# Altium schematic symbol library ST Mosfet.SchLib: 1 symbol
Pins are listed as number, name and electrical type; pins without a type are passive.

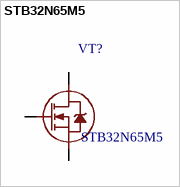
[diagram p0: symbol STB32N65M5]

## STB32N65M5
designator VT?
footprint DPAK254P1542X440-3N (D2-PAK, 3-Pads, Body 7,77x8,56mm (max), IPC Medium Density)
pins: 1, 2, 3